# EAGLE library part DTM13-12PA-12PB-R008 (library brett)
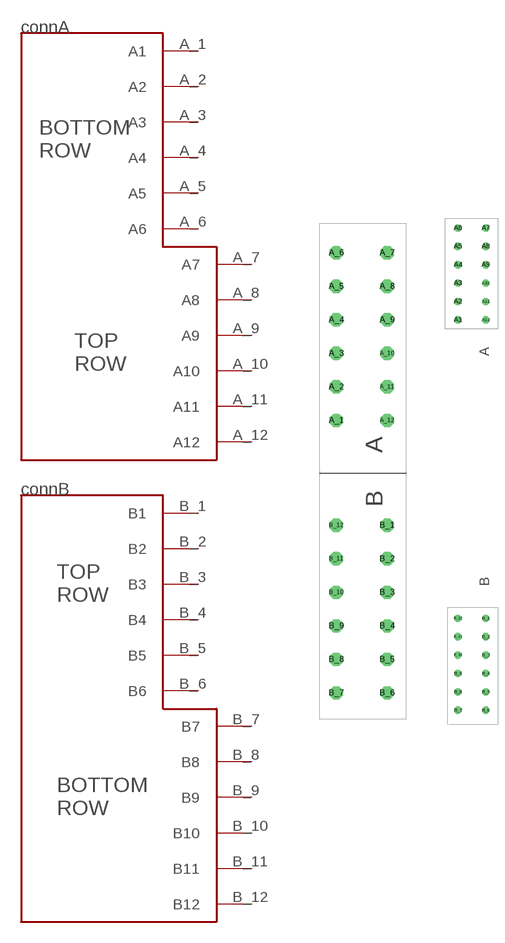
[diagram p0: symbol with the pads of DTM13-12PA-12PB-R008_SHORT; footprints DTM13-12PA-12PB-R008_SHORT, DTM13_12PA-12PB-R008_TOOLONG]

Designator prefix -

## DTM13-12PA-12PB-R008'DTM13-12PA-12PB-R008-HOLE'  [DTM13-12PA-12PB-R008_SHORT]
A_1  A1
A_2  A2
A_3  A3
A_4  A4
A_5  A5
A_6  A6
A_7  A7
A_8  A8
A_9  A9
A_10  A10
A_11  A11
A_12  A12
B_1  B1
B_2  B2
B_3  B3
B_4  B4
B_5  B5
B_6  B6
B_7  B7
B_8  B8
B_9  B9
B_10  B10
B_11  B11
B_12  B12

## DTM13-12PA-12PB-R008'TOOLONG'  [DTM13_12PA-12PB-R008_TOOLONG]
A1  A1
A2  A2
A3  A3
A4  A4
A5  A5
A6  A6
A7  A7
A8  A8
A9  A9
A10  A10
A11  A11
A12  A12
B_1  B1
B_2  B2
B_3  B3
B_4  B4
B_5  B5
B_6  B6
B_7  B7
B_8  B8
B_9  B9
B_10  B10
B_11  B11
B_12  B12

## DTM13-12PA-12PB-R008  [DTM13_12PA-12PB-R008]
Pads as for DTM13-12PA-12PB-R008_SHORT

## Footprint DTM13-12PA-12PB-R008_SHORT (pad centres in mm)
drill 1.1 octagon: A_1 2.315,37.328; A_2 2.315,41.518; A_3 2.315,45.708; A_4 2.315,49.898; A_5 2.315,54.088; A_6 2.315,58.278; A_7 8.665,58.278; A_8 8.665,54.088; A_9 8.665,49.898; A_10 8.665,45.708; A_11 8.665,41.518; A_12 8.665,37.328; B_1 8.665,24.228; B_2 8.665,20.038; B_3 8.665,15.848; B_4 8.665,11.658; B_5 8.665,7.468; B_6 8.665,3.278; B_7 2.315,3.278; B_8 2.315,7.468; B_9 2.315,11.658; B_10 2.315,15.848; B_11 2.315,20.038; B_12 2.315,24.228

## Footprint DTM13_12PA-12PB-R008_TOOLONG (pad centres in mm)
drill 1.1 octagon: A1 2.315,92.328; A2 2.315,96.518; A3 2.315,100.708; A4 2.315,104.898; A5 2.315,109.088; A6 2.315,113.278; A7 8.665,113.278; A8 8.665,109.088; A9 8.665,104.898; A10 8.665,100.708; A11 8.665,96.518; A12 8.665,92.328; B_1 8.665,24.228; B_2 8.665,20.038; B_3 8.665,15.848; B_4 8.665,11.658; B_5 8.665,7.468; B_6 8.665,3.278; B_7 2.315,3.278; B_8 2.315,7.468; B_9 2.315,11.658; B_10 2.315,15.848; B_11 2.315,20.038; B_12 2.315,24.228

## Footprint DTM13_12PA-12PB-R008 (pad centres in mm)
drill 1.1 octagon: A_1 2.315,58.278; A_2 2.315,62.468; A_3 2.315,66.658; A_4 2.315,70.848; A_5 2.315,75.038; A_6 2.315,79.228; A_7 8.665,79.228; A_8 8.665,75.038; A_9 8.665,70.848; A_10 8.665,66.658; A_11 8.665,62.468; A_12 8.665,58.278; B_1 8.665,24.228; B_2 8.665,20.038; B_3 8.665,15.848; B_4 8.665,11.658; B_5 8.665,7.468; B_6 8.665,3.278; B_7 2.315,3.278; B_8 2.315,7.468; B_9 2.315,11.658; B_10 2.315,15.848; B_11 2.315,20.038; B_12 2.315,24.228